# EAGLE library part 621X2021821 (library Wurth_Elektronik_Electromechanic_Board_to_Board_Connectors_rev16a)
WR-PHD 2.00mm Dual SMT Socket Header Low Profile, 20 Pins=>Code : Con_BTB_SHD_2.00_2_621x2021821(Packaging:x = 0: Tube x = 3: Tape & Reel with Cap) <http://katalog.we-online.de/media/thumbs2/eican/thb_Con_BTB_SHD_2.00_2_6210xx21821_pf2.jpg> 6210xx21821 Details see: http://katalog.we-online.de/en/em/621_0xx_218_21 6213xx21821 Details see: http://katalog.we-online.de/en/em/PHD_2_0_SMT_DUAL_SOCKET_HEADER_LOW_PROFILE_REEL_6213XX21821 2014 (C) Würth Elektronik
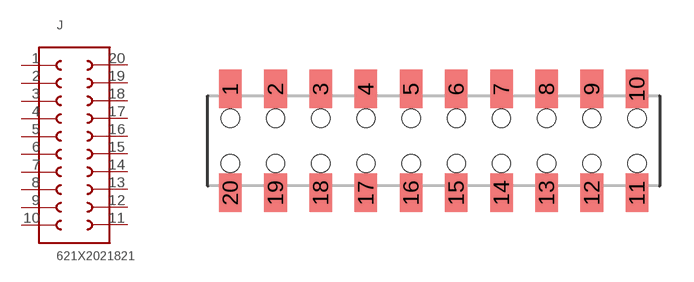
[diagram p280: symbol with the pads of 621X2021821; footprint 621X2021821]

Designator prefix J

## 621X2021821  [621X2021821]
1  1  pas
2  2  pas
3  3  pas
4  4  pas
5  5  pas
6  6  pas
7  7  pas
8  8  pas
9  9  pas
10  10  pas
11  11  pas
12  12  pas
13  13  pas
14  14  pas
15  15  pas
16  16  pas
17  17  pas
18  18  pas
19  19  pas
20  20  pas

## Footprint 621X2021821 (pad centres in mm)
WR-PHD 2.00mm Dual SMT Socket Header Low Profile, 20 Pins
smd 1 x 1.7: 1 -9,2.3; 2 -7,2.3; 3 -5,2.3; 4 -3,2.3; 5 -1,2.3; 6 1,2.3; 7 3,2.3; 8 5,2.3; 9 7,2.3; 10 9,2.3; 11 9,-2.3; 12 7,-2.3; 13 5,-2.3; 14 3,-2.3; 15 1,-2.3; 16 -1,-2.3; 17 -3,-2.3; 18 -5,-2.3; 19 -7,-2.3; 20 -9,-2.3
hole 0.8 at -7,1
hole 0.8 at -9,1
hole 0.8 at -9,-1
hole 0.8 at -7,-1
hole 0.8 at -5,1
hole 0.8 at -5,-1
hole 0.8 at -3,1
hole 0.8 at -1,1
hole 0.8 at 1,1
hole 0.8 at 3,1
hole 0.8 at 3,-1
hole 0.8 at 1,-1
hole 0.8 at -1,-1
hole 0.8 at -3,-1
hole 0.8 at 5,1
hole 0.8 at 7,1
hole 0.8 at 9,1
hole 0.8 at 5,-1
hole 0.8 at 7,-1
hole 0.8 at 9,-1